# EAGLE library part SN754410 (library RocketControlBoard)
IC HALF-H DRVR QUAD 16-DIP
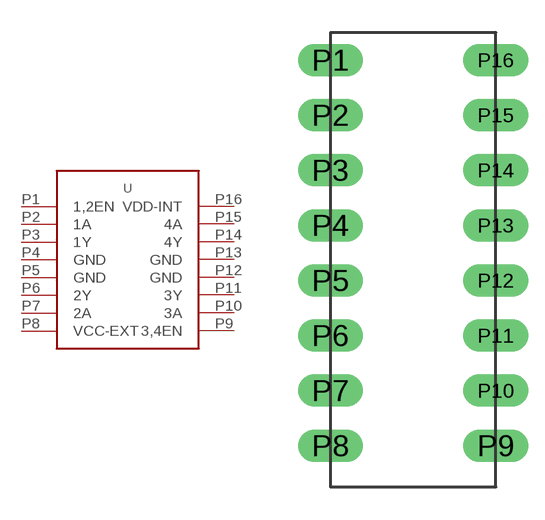
[diagram p8: symbol with the pads of SN754410; footprint SN754410]

Designator prefix -

## SN754410 (DESC: IC HALF-H DRVR QUAD 16-DIP; DIGIKEY#: 296-9911-5-ND; MANF: Texas Instruments; MANF#: SN754410NE)  [SN754410]
P1  1,2EN
P2  1A
P3  1Y
P4  GND
P5  GND
P6  2Y
P7  2A
P8  VCC-EXT
P9  3,4EN
P10  3A
P11  3Y
P12  GND
P13  GND
P14  4Y
P15  4A
P16  VDD-INT

## Footprint SN754410 (pad centres in mm)
drill 1 long: P1 -2.54,0; P2 -2.54,-2.54; P3 -2.54,-5.08; P4 -2.54,-7.62; P5 -2.54,-10.16; P6 -2.54,-12.7; P7 -2.54,-15.24; P8 -2.54,-17.78; P9 5.08,-17.78; P10 5.08,-15.24; P11 5.08,-12.7; P12 5.08,-10.16; P13 5.08,-7.62; P14 5.08,-5.08; P15 5.08,-2.54; P16 5.08,0